# EAGLE library part PIC18F14K50-E-SO (library schematic)
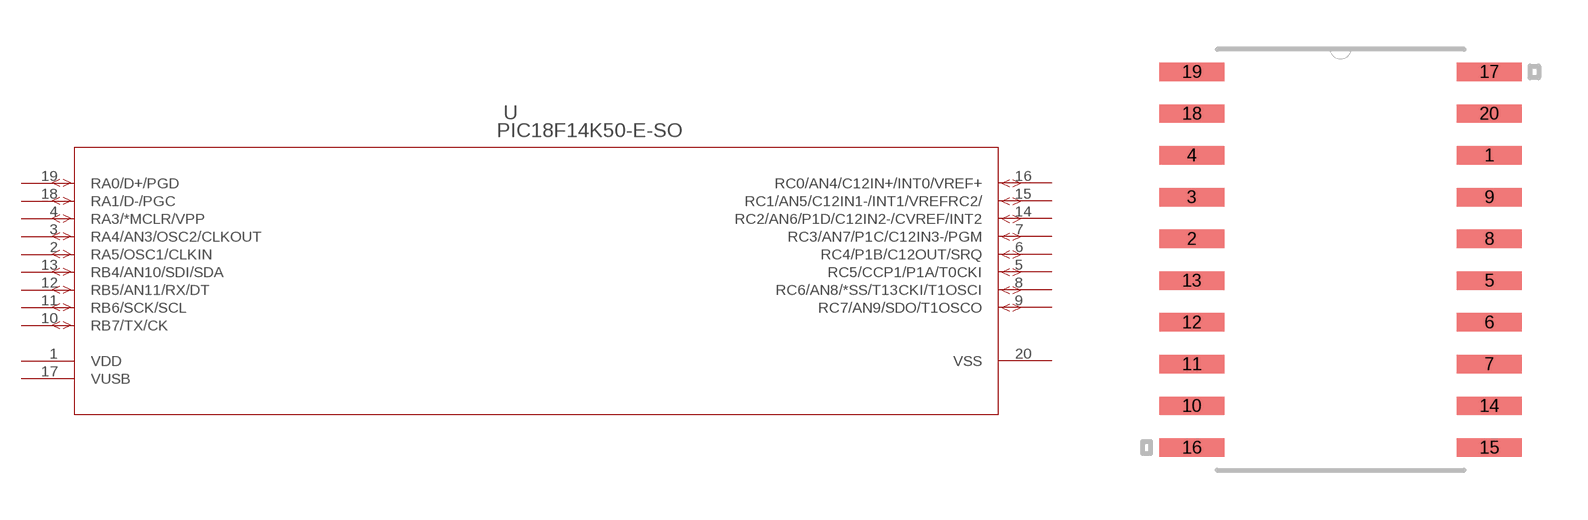
[diagram p19: symbol with the pads of PIC18F14K50-E/SO; footprint PIC18F14K50-E/SO]

Designator prefix -

## PIC18F14K50-E-SO  [PIC18F14K50-E/SO]
1  VDD  pwr
2  RA5/OSC1/CLKIN
3  RA4/AN3/OSC2/CLKOUT
4  RA3/*MCLR/VPP
5  RC5/CCP1/P1A/T0CKI
6  RC4/P1B/C12OUT/SRQ
7  RC3/AN7/P1C/C12IN3-/PGM
8  RC6/AN8/*SS/T13CKI/T1OSCI
9  RC7/AN9/SDO/T1OSCO
10  RB7/TX/CK
11  RB6/SCK/SCL
12  RB5/AN11/RX/DT
13  RB4/AN10/SDI/SDA
14  RC2/AN6/P1D/C12IN2-/CVREF/INT2
15  RC1/AN5/C12IN1-/INT1/VREFRC2/
16  RC0/AN4/C12IN+/INT0/VREF+
17  VUSB  pwr
18  RA1/D-/PGC
19  RA0/D+/PGD
20  VSS  pwr

## Footprint PIC18F14K50-E/SO (pad centres in mm)
smd 1.981 x 0.559: 1 4.521,3.175; 2 -4.521,0.635; 3 -4.521,1.905; 4 -4.521,3.175; 5 4.521,-0.635; 6 4.521,-1.905; 7 4.521,-3.175; 8 4.521,0.635; 9 4.521,1.905; 10 -4.521,-4.445; 11 -4.521,-3.175; 12 -4.521,-1.905; 13 -4.521,-0.635; 14 4.521,-4.445; 15 4.521,-5.715; 16 -4.521,-5.715; 17 4.521,5.715; 18 -4.521,4.445; 19 -4.521,5.715; 20 4.521,4.445